# EAGLE library part SPP-CA (library SPP-CA)
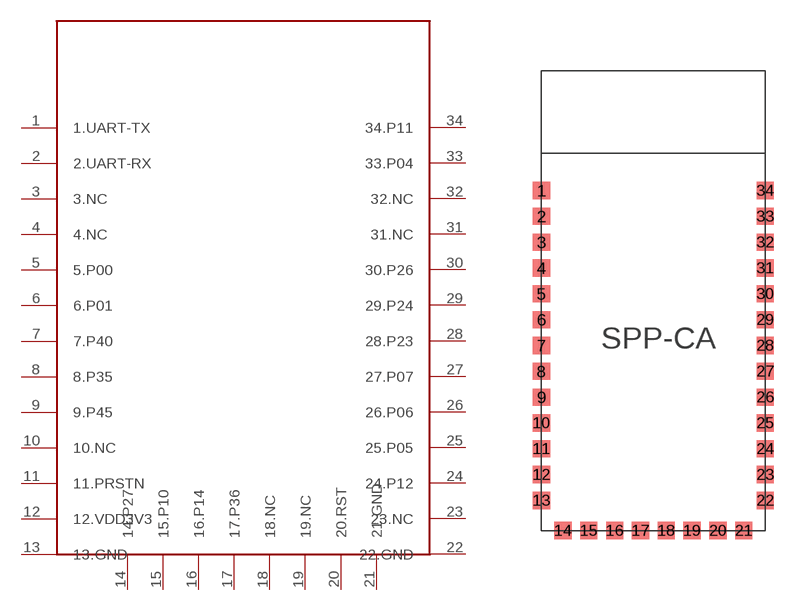
[diagram p0: symbol with the pads of SPP-CA; footprint SPP-CA]

Designator prefix -

## SPP-CA  [SPP-CA]
1  1.UART-TX
2  2.UART-RX
3  3.NC
4  4.NC
5  5.P00
6  6.P01
7  7.P40
8  8.P35
9  9.P45
10  10.NC
11  11.PRSTN
12  12.VDD3V3
13  13.GND
14  14.P27
15  15.P10
16  16.P14
17  17.P36
18  18.NC
19  19.NC
20  20.RST
21  21.GND
22  22.GND
23  23.NC
24  24.P12
25  25.P05
26  26.P06
27  27.P07
28  28.P23
29  29.P24
30  30.P26
31  31.NC
32  32.NC
33  33.P04
34  34.P11

## Footprint SPP-CA (pad centres in mm)
smd 1 x 1: 1 0,19.75; 2 0,18.25; 3 0,16.75; 4 0,15.25; 5 0,13.75; 6 0,12.25; 7 0,10.75; 8 0,9.25; 9 0,7.75; 10 0,6.25; 11 0,4.75; 12 0,3.25; 13 0,1.75; 14 1.25,0; 15 2.75,0; 16 4.25,0; 17 5.75,0; 18 7.25,0; 19 8.75,0; 20 10.25,0; 21 11.75,0; 22 13,1.75; 23 13,3.25; 24 13,4.75; 25 13,6.25; 26 13,7.75; 27 13,9.25; 28 13,10.75; 29 13,12.25; 30 13,13.75; 31 13,15.25; 32 13,16.75; 33 13,18.25; 34 13,19.75